# EAGLE library part ATTINY26 (library KaiBader-Microcontrollers)
Atmel ATtiny26 Microcontroller
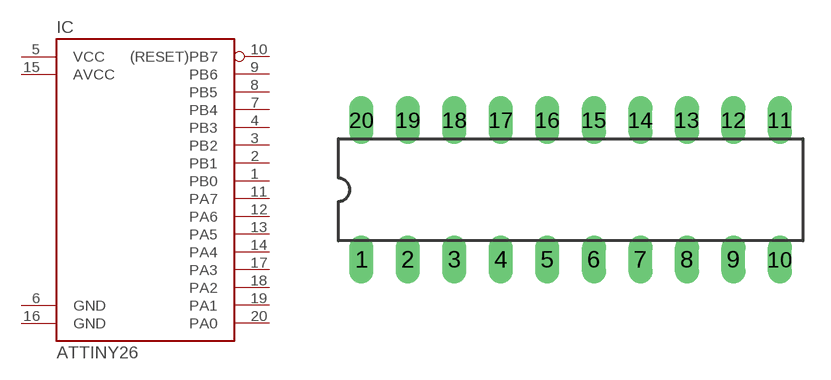
[diagram p4: symbol with the pads of DIL20; footprint DIL20]

Designator prefix IC

## ATTINY26  [DIL20]
1  PB0
2  PB1
3  PB2
4  PB3
5  VCC  pwr
6  GND  pwr
7  PB4
8  PB5
9  PB6
10  (RESET)PB7
11  PA7
12  PA6
13  PA5
14  PA4
15  AVCC  pwr
16  GND  pwr
17  PA3
18  PA2
19  PA1
20  PA0

## Footprint DIL20 (pad centres in mm)
Dual In Line Package
drill 0.813 long: 1 -11.43,-3.81; 2 -8.89,-3.81; 3 -6.35,-3.81; 4 -3.81,-3.81; 5 -1.27,-3.81; 6 1.27,-3.81; 7 3.81,-3.81; 8 6.35,-3.81; 9 8.89,-3.81; 10 11.43,-3.81; 11 11.43,3.81; 12 8.89,3.81; 13 6.35,3.81; 14 3.81,3.81; 15 1.27,3.81; 16 -1.27,3.81; 17 -3.81,3.81; 18 -6.35,3.81; 19 -8.89,3.81; 20 -11.43,3.81